# Altium schematic symbol library RES,8.2R,1%,2W,Fusible,Axial,Thru.Schlib: 1 symbol
Pins are listed as number, name and electrical type; pins without a type are passive.

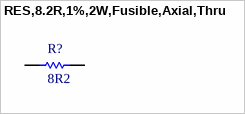
[diagram p0: symbol RES,8.2R,1%,2W,Fusible,Axial,Thru]

## RES,8.2R,1%,2W,Fusible,Axial,Thru
designator R?, comment 8R2
8.2 Ohms ±5% 2W Through Hole Resistor Axial Fusible, Safety Wirewound
pins: 1, 2